# Altium schematic symbol library LM4040C25FTA.SchLib: 1 symbol
Pins are listed as number, name and electrical type; pins without a type are passive.

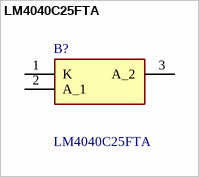
[diagram p0: symbol LM4040C25FTA]

## LM4040C25FTA
designator B?
Shunt Voltage Reference IC Fixed 2.5V V +/-0.5% 15 mA SOT-23-3; Manufacturer_Name: Diodes Incorporated; Geometry.Height: 1.1mm; Mouser Part Number: 522-LM4040C25FTA; Mouser Price/Stock: https://www.mouser.co.uk/ProductDetail/Diodes-Incorporated/LM4040C25FTA?qs=xR5F%252B7zL27%2FlODL3MyTOfg%3D%3D; Manufacturer_Part_Number: LM4040C25FTA; Datasheet Link: https://www.diodes.com//assets/Datasheets/LM4040.pdf
footprint SOT96P240X110-3N
pins: 1 K, 2 A_1, 3 A_2